# Altium footprint library Fromm.PcbLib: 105 footprints (part 1 of 7)
Each footprint in its own frame and in the unit in brackets; x right, y up, seen from the top. Pads: shape width x height; smd on the part's side, far side on the other; paste and mask are expansions set on the pad; w line width, h text height; cw(c..) or ccw(c..) is an arc to the next point about the centre after c.
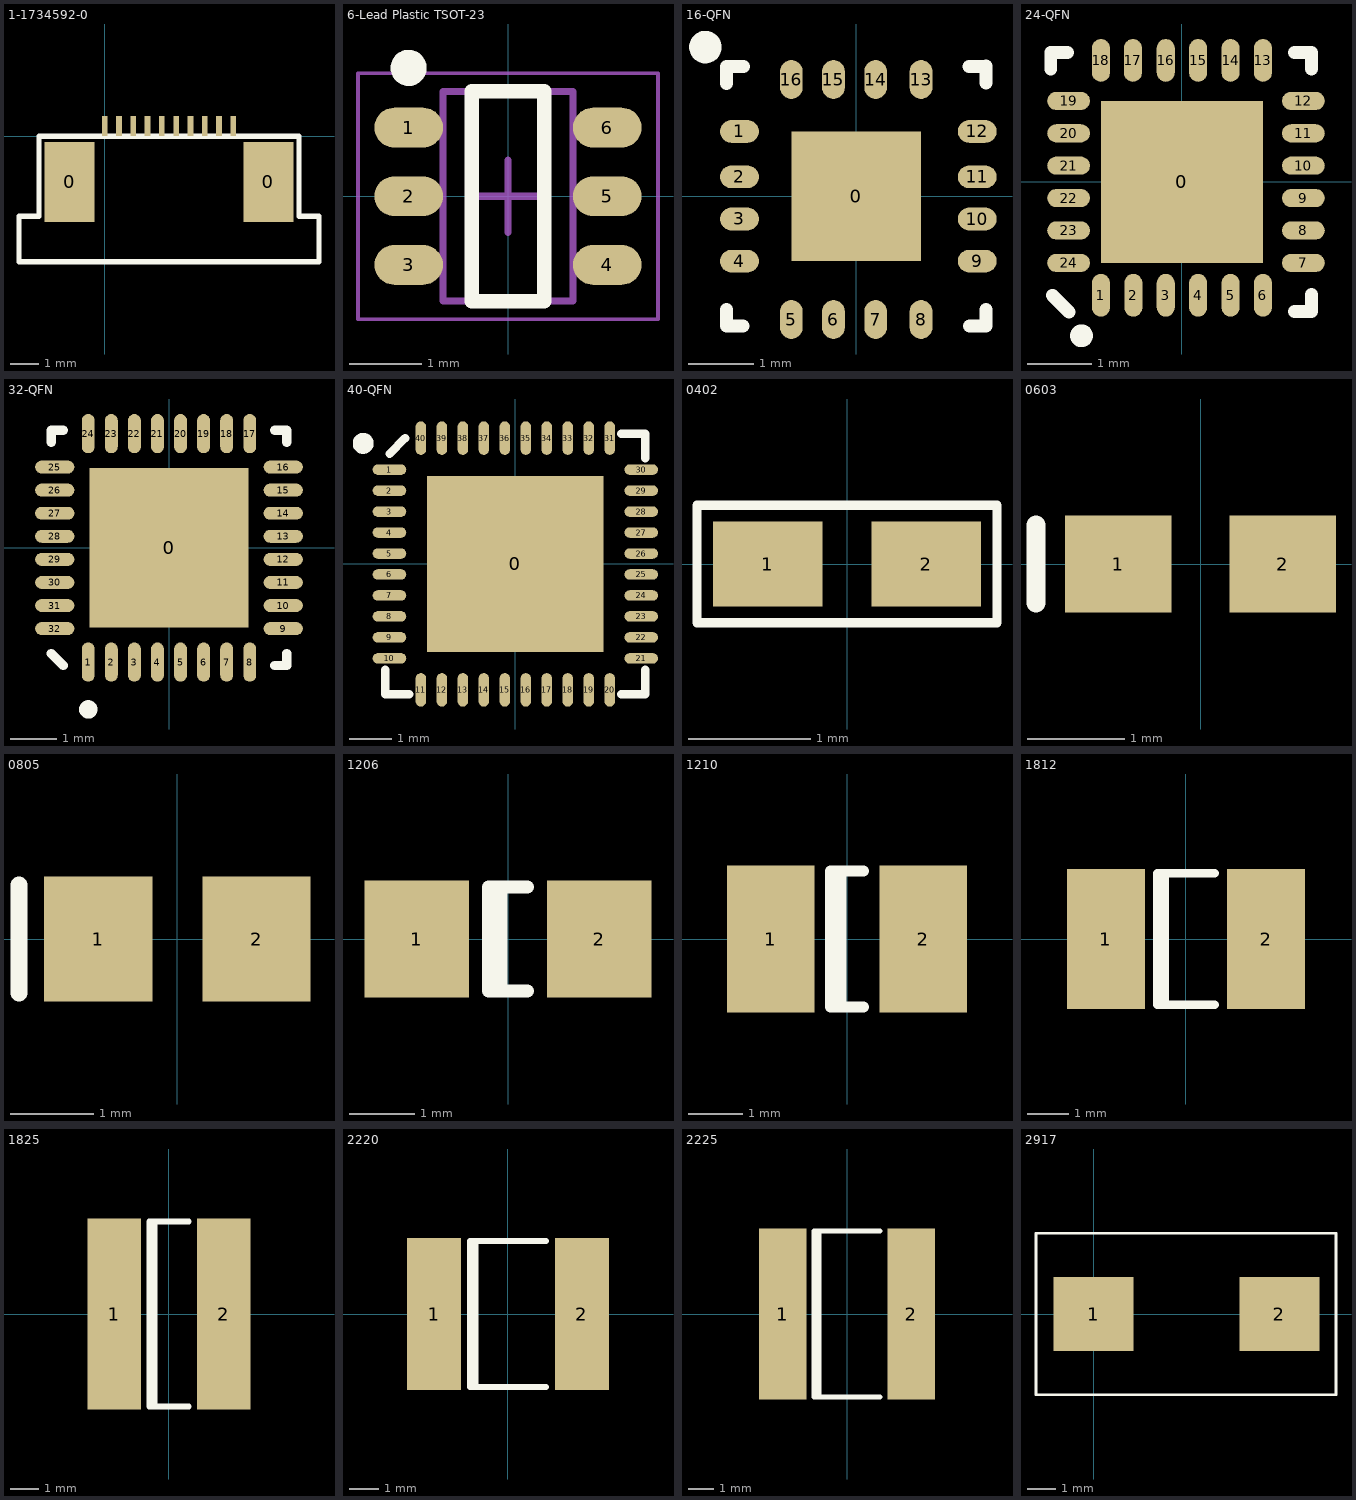
[diagram p0: the footprints below, top view; thin cyan lines are the x and y axes]

## 1-1734592-0 [mm] "FPC Connector"
height 2
pads (12):
  rect 1.75x2.8 smd: 0(-1.225,-1.6) 0(5.725,-1.6)
  rect 0.2x0.7 smd: 1(0,0.35) 2(0.5,0.35) 3(1,0.35) 4(1.5,0.35) 5(2,0.35) 6(2.5,0.35) 7(3,0.35) 8(3.5,0.35) 9(4,0.35) 10(4.5,0.35)
Top Overlay:
  lines w0.19: -2.3,-4.4 6.8,-4.4 ; -2.2,-4.4 -3,-4.4 -3,-2.8 -2.3,-2.8 -2.3,0 -0.25,0 ; -0.35,0 4.9,0 ; 4.75,0 6.8,0 6.8,-2.8 7.5,-2.8 7.5,-4.4 6.7,-4.4

## 6-Lead Plastic TSOT-23 [mm] "TSOP, 6-Leads, Body 2.90x1.63mm, Pitch 0.95mm, IPC Medium Density"
height 1
pads (6):
  oval 0.95x0.55 smd: 1(-1.375,0.95) 2(-1.375,0) 3(-1.375,-0.95) 4(1.375,-0.95) 5(1.375,0) 6(1.375,0.95)
Top Overlay:
  circle w0.25: c-1.375,1.775 r0.125
  lines w0.2: -0.5,-1.45 -0.5,1.45 0.5,1.45 0.5,-1.45 -0.5,-1.45
Mechanical 13:
  lines w0.1: -0.9,-1.45 -0.9,1.45 0.9,1.45 0.9,-1.45 -0.9,-1.45
Mechanical 15:
  lines w0.05: -2.075,-1.7 -2.075,1.7 2.075,1.7 2.075,-1.7 -2.075,-1.7
  lines w0.1: -0.5,0 0.5,0 ; 0,-0.5 0,0.5
3D body: height 1, standoff 0.01, extent -0.9,-1.45 0.9,1.45

## 16-QFN [mm] "16-QFN, LFCSP (CP-16-5) for ADXL330k"
pads (17):
  rect 2x2 smd: 0(0,0)
  oval 0.6x0.35 smd: 1(-1.8,1) 2(-1.8,0.3) 3(-1.8,-0.35) 4(-1.8,-1) 9(1.867,-1) 10(1.867,-0.35) 11(1.867,0.3) 12(1.867,1)
  oval 0.35x0.6 smd: 5(-1,-1.9) 6(-0.35,-1.9) 7(0.3,-1.9) 8(1,-1.9) 13(1,1.8) 14(0.3,1.8) 15(-0.35,1.8) 16(-1,1.8)
Top Overlay:
  circle w0.25: c-2.325,2.3 r0.125
  lines w0.2: -2,-1.746 -2,-2 -1.746,-2 ; -2,1.74 -2,2 -1.74,2 ; 1.74,2 2,2 ; 1.746,-2 2,-2 2,-1.746 ; 2,1.746 2,2.006

## 24-QFN [mm] "24-QFN, for MSP430Fx21x1"
height 1
pads (25):
  rect 2.5x2.5 smd: 0(0,0)
  oval 0.28x0.66 smd: 1(-1.25,-1.75) 2(-0.75,-1.75) 3(-0.25,-1.75) 4(0.25,-1.75) 5(0.75,-1.75) 6(1.25,-1.75) 13(1.25,1.875) 14(0.75,1.875) 15(0.25,1.875) 16(-0.25,1.875) 17(-0.757,1.875) 18(-1.25,1.875)
  oval 0.66x0.28 smd: 7(1.875,-1.25) 8(1.875,-0.75) 9(1.875,-0.25) 10(1.875,0.25) 11(1.875,0.75) 12(1.875,1.25) 19(-1.75,1.25) 20(-1.75,0.75) 21(-1.75,0.25) 22(-1.75,-0.25) 23(-1.75,-0.75) 24(-1.75,-1.25)
Top Overlay:
  circle w0.25: c-1.55,-2.375 r0.05
  lines w0.2: -2.025,1.74 -2.025,2 -1.765,2 ; -2,-1.75 -1.74,-2.01 ; 1.74,-2 2,-2 2,-1.74 ; 1.74,2 2,2 2,1.74

## 32-QFN [mm] "32-QFN, for MSP430F1232"
pads (33):
  rect 3.45x3.45 smd: 0(0,0)
  oval 0.28x0.85 smd: 1(-1.75,-2.475) 2(-1.25,-2.475) 3(-0.75,-2.475) 4(-0.25,-2.475) 5(0.25,-2.475) 6(0.75,-2.475) 7(1.25,-2.475) 8(1.75,-2.475) 17(1.75,2.475) 18(1.25,2.475) 19(0.75,2.475) 20(0.25,2.475) 21(-0.25,2.475) 22(-0.75,2.475) 23(-1.25,2.475) 24(-1.75,2.475)
  oval 0.85x0.28 smd: 9(2.475,-1.75) 10(2.475,-1.25) 11(2.475,-0.75) 12(2.475,-0.25) 13(2.475,0.25) 14(2.475,0.75) 15(2.475,1.25) 16(2.475,1.75) 25(-2.475,1.75) 26(-2.475,1.25) 27(-2.475,0.75) 28(-2.475,0.25) 29(-2.475,-0.25) 30(-2.475,-0.75) 31(-2.475,-1.25) 32(-2.475,-1.75)
Top Overlay:
  circle w0.2: c-1.75,-3.5 r0.1
  lines w0.2: -2.55,-2.29 -2.29,-2.55 ; -2.55,2.29 -2.55,2.55 -2.29,2.55 ; 2.29,-2.55 2.55,-2.55 2.55,-2.29 ; 2.29,2.55 2.55,2.55 2.55,2.29

## 40-QFN [mm] "QFN, 40-Leads, Body 6.2x6.2mm (max), Pitch 0.50mm, IPC Medium Density - MSP430x22x4"
height 1
pads (41):
  rect 4.2x4.2 smd: 0(0,0)
  oval 0.8x0.25 smd: 1(-3,2.25) 2(-3,1.75) 3(-3,1.25) 4(-3,0.75) 5(-3,0.25) 6(-3,-0.25) 7(-3,-0.75) 8(-3,-1.25) 9(-3,-1.75) 10(-3,-2.25) 21(3,-2.25) 22(3,-1.75) 23(3,-1.25) 24(3,-0.75) 25(3,-0.25) 26(3,0.25) 27(3,0.75) 28(3,1.25) 29(3,1.75) 30(3,2.25)
  oval 0.25x0.8 smd: 11(-2.25,-3) 12(-1.75,-3) 13(-1.25,-3) 14(-0.75,-3) 15(-0.25,-3) 16(0.25,-3) 17(0.75,-3) 18(1.25,-3) 19(1.75,-3) 20(2.25,-3) 31(2.25,3) 32(1.75,3) 33(1.25,3) 34(0.75,3) 35(0.25,3) 36(-0.25,3) 37(-0.75,3) 38(-1.25,3) 39(-1.75,3) 40(-2.25,3)
Top Overlay:
  circle w0.25: c-3.625,2.875 r0.125
  lines w0.2: -3.1,-2.525 -3.1,-3.1 -2.525,-3.1 ; -3,2.625 -2.625,3 ; 2.525,-3.1 3.1,-3.1 3.1,-2.525 ; 2.525,3.1 3.1,3.1 3.1,2.525

## 0402 [mm] "Chip Capacitor; Body 1.0 x 0.5 mm (LxW typ)"
height 0.55
pads (2):
  rect 0.9x0.7 smd: 1(-0.65,0) 2(0.65,0)
Top Overlay:
  lines w0.076: -1.232,-0.483 1.232,-0.483 1.232,0.483 -1.232,0.483 -1.232,-0.483

## 0603 [mm] "Chip Capacitor; Body 1.6 x 0.8 mm (LxW typ)"
height 0.87
pads (2):
  rect 1.1x1 smd: 1(-0.85,0) 2(0.85,0)
Top Overlay:
  lines w0.2: -1.7,-0.4 -1.7,0.4
3D body: height 0.8, standoff 0, extent -0.975,-0.5 0.95,0.5

## 0805 [mm] "Chip Capacitor; Body 2.0 x 1.2 mm (LxW typ)"
height 1.3
pads (2):
  rect 1.3x1.5 smd: 1(-0.95,0) 2(0.95,0)
Top Overlay:
  lines w0.2: -1.9,-0.65 -1.9,0.65

## 1206 [mm] "Chip Capacitor; Body 3.2 x 1.6 mm (LxW typ)"
height 1.5
pads (2):
  rect 1.6x1.8 smd: 1(-1.4,0) 2(1.4,0)
Top Overlay:
  lines w0.2: -0.11,-0.8 -0.11,0.8 ; 0.3,-0.8 -0.3,-0.8 -0.3,0.8 0.3,0.8

## 1210 [mm] "Chip Capacitor; Body 3.2 x 2.5 mm (LxW typ)"
height 1.7
pads (2):
  rect 1.6x2.7 smd: 1(-1.4,0) 2(1.4,0)
Top Overlay:
  lines w0.2: -0.11,-1.25 -0.11,1.25 ; 0.3,-1.25 -0.3,-1.25 -0.3,1.25 0.3,1.25

## 1812 [mm] "Chip Capacitor; Body 4.5 x 3.2 mm (LxW typ)"
height 1.7
pads (2):
  rect 1.9x3.4 smd: 1(-1.95,0) 2(1.95,0)
Top Overlay:
  lines w0.2: -0.51,-1.6 -0.51,1.6 ; 0.7,-1.6 -0.7,-1.6 -0.7,1.6 0.7,1.6

## 1825 [mm] "Chip Capacitor; Body 4.5 x 6.4 mm (LxW typ)"
height 1.7
pads (2):
  rect 1.9x6.8 smd: 1(-1.95,0) 2(1.95,0)
Top Overlay:
  lines w0.2: -0.51,-3.3 -0.51,3.3 ; 0.7,-3.3 -0.7,-3.3 -0.7,3.3 0.7,3.3

## 2220 [mm] "Chip Capacitor; Body 5.7 x 5.0 mm (LxW typ)"
height 1.8
pads (2):
  rect 1.85x5.2 smd: 1(-2.525,0) 2(2.525,0)
Top Overlay:
  lines w0.2: -1.11,-2.5 -1.11,2.5 ; 1.3,-2.5 -1.3,-2.5 -1.3,2.5 1.3,2.5

## 2225 [mm] "Chip Capacitor; Body 5.6 x 6.4 mm (LxW typ)"
height 2
pads (2):
  rect 1.9x6.8 smd: 1(-2.55,0) 2(2.55,0)
Top Overlay:
  lines w0.2: -1.11,-3.3 -1.11,3.3 ; 1.3,-3.3 -1.3,-3.3 -1.3,3.3 1.3,3.3

## 2917 [mm] "Standard Footprint"
pads (2):
  rect 2.77x2.55 smd: 1(0,0) 2(6.44,0)
Top Overlay:
  lines w0.1: -2,-2.8 8.4,-2.8 8.4,2.8 -2,2.8 -2,-2.8